# EAGLE library part INA219 (library daqcs_host)
26-V, Bidirectional, Zero-Drift, High-Side, I2C Out Current/Power Monitor
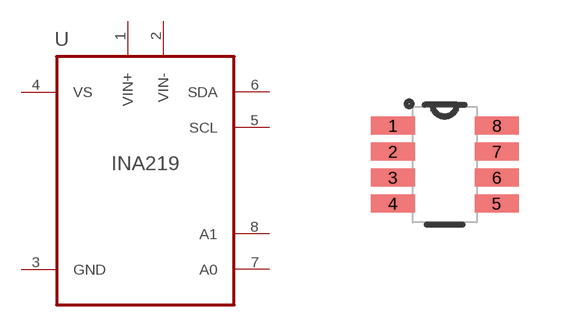
[diagram p7: symbol with the pads of SOT65P110X045-8N; footprint SOT65P110X045-8N]

Designator prefix U

## INA219AIDCNR (MANUFACTURER: Texas Instruments; MANUFACTURER_PN: INA219AIDCNR; VALUE: INA219AIDCNR; VENDOR: Digi-key; VENDOR_PN: 296-23770-1-ND)  [SOT65P110X045-8N]
1  VIN+  in
2  VIN-  in
3  GND  pwr
4  VS  pwr
5  SCL  in
6  SDA
7  A0  in
8  A1  in

## Footprint SOT65P110X045-8N (pad centres in mm)
smd 1.1 x 0.45: 1 -1.3,0.975; 2 -1.3,0.325; 3 -1.3,-0.325; 4 -1.3,-0.975; 5 1.3,-0.975; 6 1.3,-0.325; 7 1.3,0.325; 8 1.3,0.975